# Altium schematic symbol library parts.SchLib: 4 symbols
Pins are listed as number, name and electrical type; pins without a type are passive.

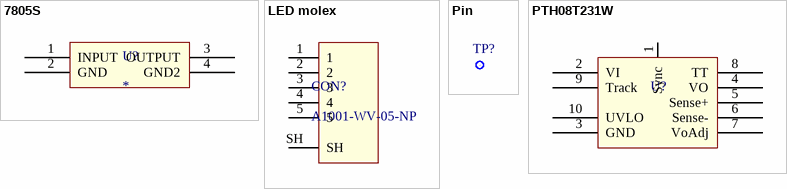
[diagram p0: symbols 7805S to PTH08T231W]

## 7805S
designator U?
footprint TO-263-3
pins: 1 INPUT, 2 GND, 3 OUTPUT, 4 GND2

## LED molex
designator CON?, comment A1001-WV-05-NP
PartNumber: A1001-WV-05-NP
footprint LED molex
pins: 1, 2, 3, 4, 5, SH

## Pin
designator TP?  (value not drawn)
Testing pin
footprint Pin (Test pin)
pins: 1 Pin

## PTH08T231W
designator U?  (value not drawn)
footprint PTH08T231W
pins: 1 Sync, 2 VI, 3 GND, 4 VO, 5 Sense+, 6 Sense-, 7 VoAdj, 8 TT, 9 Track, 10 UVLO